# EAGLE library part LCD_BL (library lcd-bl)
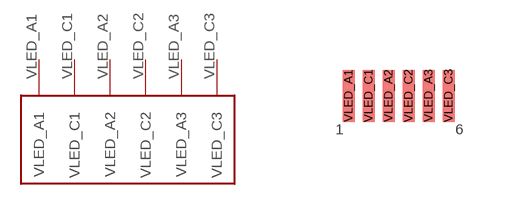
[diagram p0: symbol with the pads of LCD_BL; footprint LCD_BL]

Designator prefix -

## LCD_BL  [LCD_BL]
VLED_A1  VLED_A1
VLED_A2  VLED_A2
VLED_A3  VLED_A3
VLED_C1  VLED_C1
VLED_C2  VLED_C2
VLED_C3  VLED_C3

## Footprint LCD_BL (pad centres in mm)
smd 0.3 x 1.3: VLED_A1 -1.54,0; VLED_A2 -0.54,0; VLED_A3 0.46,0; VLED_C1 -1.04,0; VLED_C2 -0.04,0; VLED_C3 0.96,0